# EAGLE library part BLUETOOTH_HM-10 (library PiB_radio_frequency)
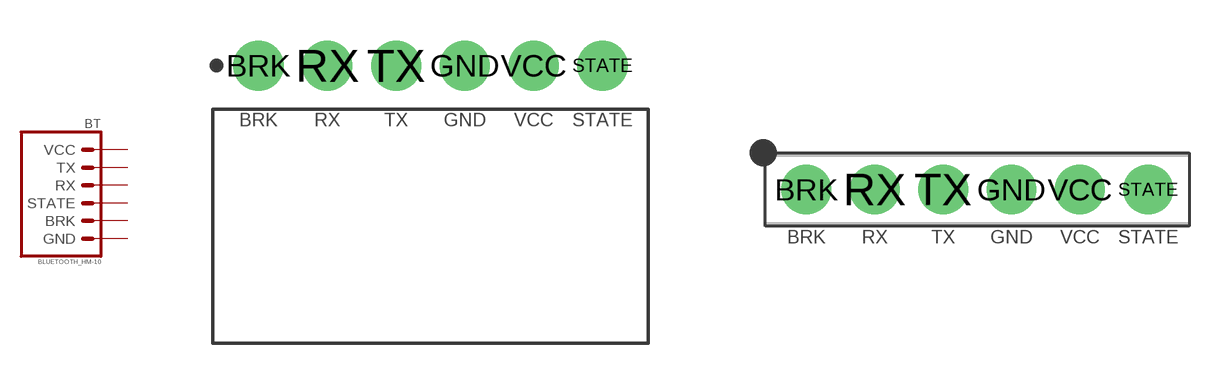
[diagram p0: symbol with the pads of HDRRAR6W60P254_1X6_1574X850X274B; footprints HDRRAR6W60P254_1X6_1574X850X274B, HDRVR6W64P254_1X6_1574X254X850B]

Designator prefix BT

## BLUETOOTH_HM-10_PTH_RA_FEMALE_2.54MM (DATASHEET: http://fab.cba.mit.edu/classes/863.15/doc/tutorials/programming/bluetooth/bluetooth40_en.pdf; DATASHEET_CONNECTOR: http://www.sullinscorp.com/drawings/78_P(N)PxCxx1LGBN-RC,_10493-G.pdf; DIST: Amazon; DISTLINK: https://www.amazon.com/SunFounder-Bluetooth-Master-Module-Arduino/dp/B00V07U93U; DISTLINK_CONNECTOR: https://www.digikey.com/products/en?keywords=PPTC061LGBN-RC; DISTPN: B00V07U93U; DISTPN_CONNECTOR: S5442-ND; DIST_CONNECTOR: Digikey; MFR: JNHuaMao Technology Company; MFR_CONNECTOR: Sullins Connector Solutions; MPN: HM-10; MPN_CONNECTOR: PPTC061LGBN-RC; VALUE: HM-10)  [HDRRAR6W60P254_1X6_1574X850X274B]
BRK  BRK  nc
GND  GND  pas
RX  RX  in
STATE  STATE  nc
TX  TX  out
VCC  VCC  pas

## BLUETOOTH_HM-10_PTH_VERT_FEMALE_2.54MM (DATASHEET: http://fab.cba.mit.edu/classes/863.15/doc/tutorials/programming/bluetooth/bluetooth40_en.pdf; DATASHEET_CONNECTOR: https://drawings-pdf.s3.amazonaws.com/10492.pdf; DIST: Amazon; DISTLINK: https://www.amazon.com/SunFounder-Bluetooth-Master-Module-Arduino/dp/B00V07U93U; DISTLINK_CONNECTOR: https://www.digikey.com/products/en?keywords=PPTC061LFBN-RC; DISTPN: BC24838; DISTPN_CONNECTOR: S7004-ND; DIST_CONNECTOR: Digikey; MFR: JNHuaMao Technology Company; MFR_CONNECTOR: Sullins Connector Solutions; MPN: HM-10; MPN_CONNECTOR: PPTC061LFBN-RC; VALUE: HM-10)  [HDRVR6W64P254_1X6_1574X254X850B]
Pads as for HDRRAR6W60P254_1X6_1574X850X274B

## Footprint HDRRAR6W60P254_1X6_1574X850X274B (pad centres in mm)
Single-row, 6-pin Receptacle Header (Female) Right Angle, 2.54 mm (0.10 in) col pitch, 8.50 mm insulator length, 15.74 X 8.50 X 2.74 mm body Single-row (1X6), 6-pin Receptacle Header (Female) Right Angle package with 2.54 mm (0.10 in) col pitch, 0.60 mm lead width, 3.15 mm tail length and 8.50 mm insulator length with body size 15.74 X 8.50 X 2.74 mm, pin pattern - clockwise from top left
drill 1 pad 1.85: BRK 0,0; GND 7.62,0; RX 2.54,0; STATE 12.7,0; TX 5.08,0; VCC 10.16,0

## Footprint HDRVR6W64P254_1X6_1574X254X850B (pad centres in mm)
Single-row, 6-pin Receptacle Header (Female) Straight, 2.54 mm (0.10 in) col pitch, 8.50 mm insulator length, 15.74 X 2.54 X 8.50 mm body Single-row (1X6), 6-pin Receptacle Header (Female) Straight package with 2.54 mm (0.10 in) col pitch, 0.64 mm lead width, 3.20 mm tail length and 8.50 mm insulator length with overall size 15.74 X 2.54 X 8.50 mm, pin pattern - clockwise from top left
drill 1 pad 1.85: BRK 0,0; GND 7.62,0; RX 2.54,0; STATE 12.7,0; TX 5.08,0; VCC 10.16,0